# Altium schematic symbol library LM2677SX-5.0.SchLib: 1 symbol
Pins are listed as number, name and electrical type; pins without a type are passive.

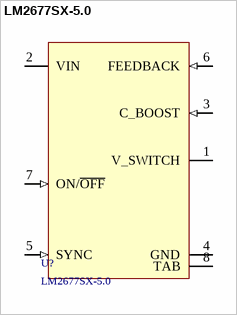
[diagram p0: symbol LM2677SX-5.0]

## LM2677SX-5.0
designator U?
Manufacturer: Texas Instruments; DigiKey: LM2677S-5.0/NOPB-ND; MPN: LM2677SX-5.0
footprint DPAK127P1336X457-8N (TO, 8-Pads, Body 7,42x8,44mm (max), IPC Medium Density)
pins: 1 V_SWITCH (power), 2 VIN (power), 3 C_BOOST (in), 4 GND (power), 5 SYNC (in), 6 FEEDBACK (in), 7 ON/~{OFF} (in), 8 TAB